# EAGLE library part DIL28 (library 1dah)
Dual In Line
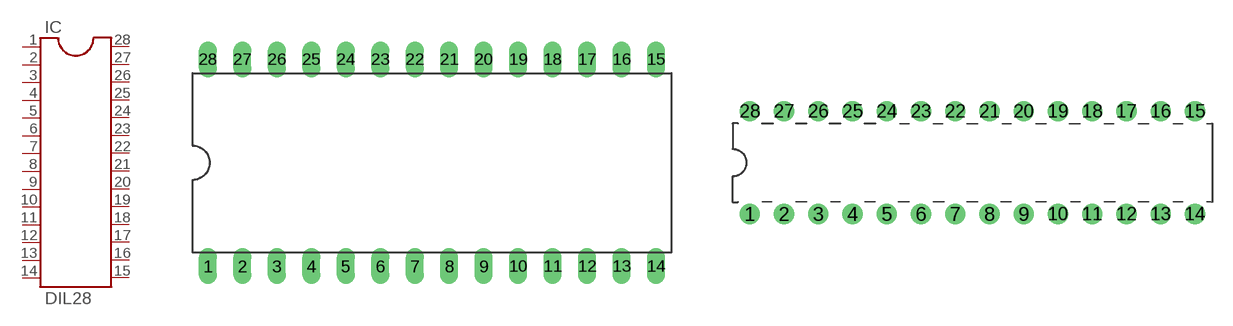
[diagram p5: symbol with the pads of DIL28-6; footprints DIL28-6, DIL28-3]

Designator prefix IC

## DIL28  [DIL28-6]
1  1  pas
2  2  pas
3  3  pas
4  4  pas
5  5  pas
6  6  pas
7  7  pas
8  8  pas
9  9  pas
10  10  pas
11  11  pas
12  12  pas
13  13  pas
14  14  pas
15  15  pas
16  16  pas
17  17  pas
18  18  pas
19  19  pas
20  20  pas
21  21  pas
22  22  pas
23  23  pas
24  24  pas
25  25  pas
26  26  pas
27  27  pas
28  28  pas

## DIL28-3  [DIL28-3]
Pads as for DIL28-6

## DIL28-4  [DIL28-4]
Pads as for DIL28-6

## DIL28-ARDUINO  [ARDUINO-DIL]
A0  23  pas
A1  24  pas
A2  25  pas
A3  26  pas
A4/SDA  27  pas
A5/SCL  28  pas
AGND  22  pas
AREF  21  pas
AVCC  20  pas
D0/RX  2  pas
D1/TX  3  pas
D2  4  pas
D3*  5  pas
D4  6  pas
D5*  11  pas
D6*  12  pas
D7  13  pas
D8  14  pas
D9*  15  pas
D10*  16  pas
D11/MOSI*  17  pas
D12/MISO  18  pas
D13/SCK  19  pas
GND  8  pas
RESET  1  pas
VCC  7  pas
XTAL1  9  pas
XTAL2  10  pas

## Footprint DIL28-6 (pad centres in mm)
Dual In Line Package 0.6 inch
drill 0.813 long: 1 -16.51,-7.62; 2 -13.97,-7.62; 3 -11.43,-7.62; 4 -8.89,-7.62; 5 -6.35,-7.62; 6 -3.81,-7.62; 7 -1.27,-7.62; 8 1.27,-7.62; 9 3.81,-7.62; 10 6.35,-7.62; 11 8.89,-7.62; 12 11.43,-7.62; 13 13.97,-7.62; 14 16.51,-7.62; 15 16.51,7.62; 16 13.97,7.62; 17 11.43,7.62; 18 8.89,7.62; 19 6.35,7.62; 20 3.81,7.62; 21 1.27,7.62; 22 -1.27,7.62; 23 -3.81,7.62; 24 -6.35,7.62; 25 -8.89,7.62; 26 -11.43,7.62; 27 -13.97,7.62; 28 -16.51,7.62

## Footprint DIL28-3 (pad centres in mm)
Dual In Line Package Small
drill 0.813 pad 1.5: 1 -16.51,-3.81; 2 -13.97,-3.81; 3 -11.43,-3.81; 4 -8.89,-3.81; 5 -6.35,-3.81; 6 -3.81,-3.81; 7 -1.27,-3.81; 8 1.27,-3.81; 9 3.81,-3.81; 10 6.35,-3.81; 11 8.89,-3.81; 12 11.43,-3.81; 13 13.97,-3.81; 14 16.51,-3.81; 15 16.51,3.81; 16 13.97,3.81; 17 11.43,3.81; 18 8.89,3.81; 19 6.35,3.81; 20 3.81,3.81; 21 1.27,3.81; 22 -1.27,3.81; 23 -3.81,3.81; 24 -6.35,3.81; 25 -8.89,3.81; 26 -11.43,3.81; 27 -13.97,3.81; 28 -16.51,3.81

## Footprint DIL28-4 (pad centres in mm)
Dual In Line Package
drill 0.813 long: 1 -16.51,-5.08; 2 -13.97,-5.08; 3 -11.43,-5.08; 4 -8.89,-5.08; 5 -6.35,-5.08; 6 -3.81,-5.08; 7 -1.27,-5.08; 8 1.27,-5.08; 9 3.81,-5.08; 10 6.35,-5.08; 11 8.89,-5.08; 12 11.43,-5.08; 13 13.97,-5.08; 14 16.51,-5.08; 15 16.51,5.08; 16 13.97,5.08; 17 11.43,5.08; 18 8.89,5.08; 19 6.35,5.08; 20 3.81,5.08; 21 1.27,5.08; 22 -1.27,5.08; 23 -3.81,5.08; 24 -6.35,5.08; 25 -8.89,5.08; 26 -11.43,5.08; 27 -13.97,5.08; 28 -16.51,5.08

## Footprint ARDUINO-DIL (pad centres in mm)
Dual In Line Package Small
drill 0.813 pad 1.5: A0 3.81,3.81; A1 3.81,6.35; A2 3.81,8.89; A3 3.81,11.43; A4/SDA 3.81,13.97; A5/SCL 3.81,16.51; AGND 3.81,1.27; AREF 3.81,-1.27; AVCC 3.81,-3.81; D0/RX -3.81,13.97; D1/TX -3.81,11.43; D2 -3.81,8.89; D3* -3.81,6.35; D4 -3.81,3.81; D5* -3.81,-8.89; D6* -3.81,-11.43; D7 -3.81,-13.97; D8 -3.81,-16.51; D9* 3.81,-16.51; D10* 3.81,-13.97; D11/MOSI* 3.81,-11.43; D12/MISO 3.81,-8.89; D13/SCK 3.81,-6.35; GND -3.81,-1.27; RESET -3.81,16.51; VCC -3.81,1.27; XTAL1 -3.81,-3.81; XTAL2 -3.81,-6.35